# EAGLE library part MAX5864ETM+ (library muccc)
MAX5864 22Msps Analog Front End
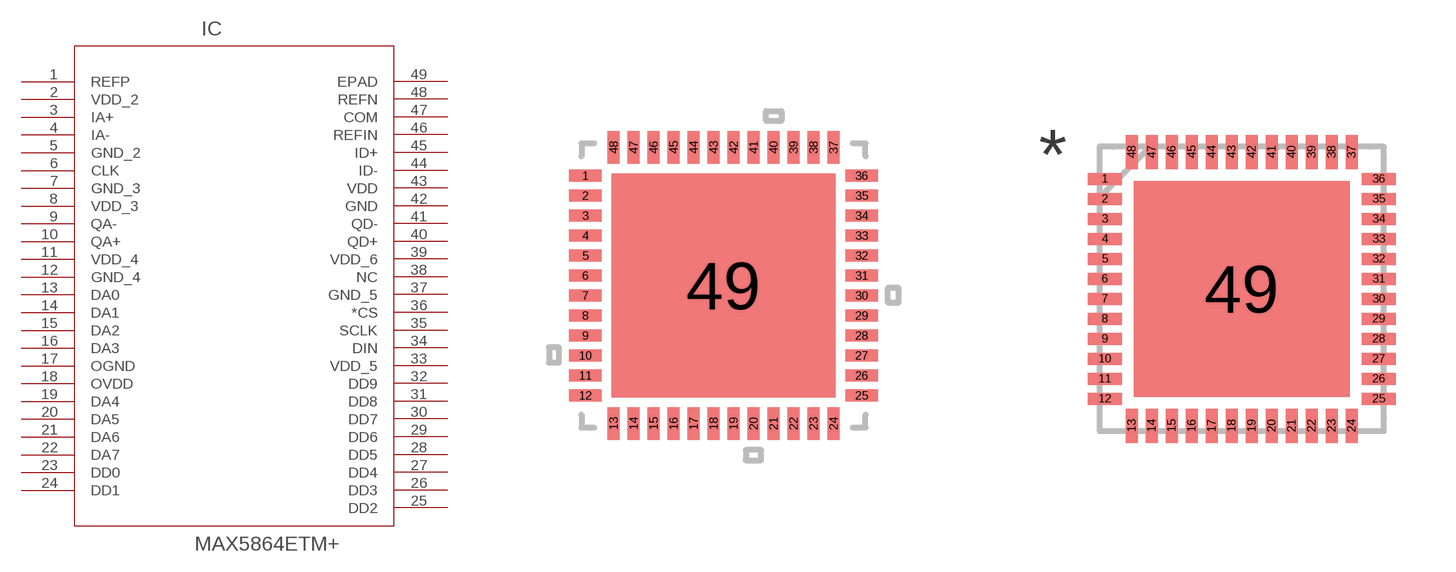
[diagram p0: symbol with the pads of 21-0144H_T4877-4; footprints 21-0144H_T4877-4, 21-0144H_T4877-4-PDF]

Designator prefix IC

## MAX5864ETM+ (MANUFACTURER_PART_NUMBER: max5864etm+; VENDOR: MAXIM)  [21-0144H_T4877-4]
1  REFP  pas
2  VDD_2  pwr
3  IA+  in
4  IA-  in
5  GND_2  pwr
6  CLK  in
7  GND_3  pwr
8  VDD_3  pwr
9  QA-  in
10  QA+  in
11  VDD_4  pwr
12  GND_4  pwr
13  DA0  out
14  DA1  out
15  DA2  out
16  DA3  out
17  OGND  pwr
18  OVDD  pwr
19  DA4  out
20  DA5  out
21  DA6  out
22  DA7  out
23  DD0  in
24  DD1  in
25  DD2  in
26  DD3  in
27  DD4  in
28  DD5  in
29  DD6  in
30  DD7  in
31  DD8  in
32  DD9  in
33  VDD_5  pwr
34  DIN  in
35  SCLK  in
36  *CS  in
37  GND_5  pwr
38  NC  nc
39  VDD_6  pwr
40  QD+  out
41  QD-  out
42  GND  pwr
43  VDD  pwr
44  ID-  out
45  ID+  out
46  REFIN  out
47  COM
48  REFN
49  EPAD  pas

## MAX5864ETM+PDF  [21-0144H_T4877-4-PDF]
Pads as for 21-0144H_T4877-4

## Footprint 21-0144H_T4877-4 (pad centres in mm)
smd 0.813 x 0.305: 1 -3.454,2.75; 2 -3.454,2.25; 3 -3.454,1.75; 4 -3.454,1.25; 5 -3.454,0.75; 6 -3.454,0.25; 7 -3.454,-0.25; 8 -3.454,-0.75; 9 -3.454,-1.25; 10 -3.454,-1.75; 11 -3.454,-2.25; 12 -3.454,-2.75; 25 3.454,-2.75; 26 3.454,-2.25; 27 3.454,-1.75; 28 3.454,-1.25; 29 3.454,-0.75; 30 3.454,-0.25; 31 3.454,0.25; 32 3.454,0.75; 33 3.454,1.25; 34 3.454,1.75; 35 3.454,2.25; 36 3.454,2.75
smd 0.305 x 0.813: 13 -2.75,-3.454; 14 -2.25,-3.454; 15 -1.75,-3.454; 16 -1.25,-3.454; 17 -0.75,-3.454; 18 -0.25,-3.454; 19 0.25,-3.454; 20 0.75,-3.454; 21 1.25,-3.454; 22 1.75,-3.454; 23 2.25,-3.454; 24 2.75,-3.454; 37 2.75,3.454; 38 2.25,3.454; 39 1.75,3.454; 40 1.25,3.454; 41 0.75,3.454; 42 0.25,3.454; 43 -0.25,3.454; 44 -0.75,3.454; 45 -1.25,3.454; 46 -1.75,3.454; 47 -2.25,3.454; 48 -2.75,3.454
smd 5.588 x 5.588: 49 0,0

## Footprint 21-0144H_T4877-4-PDF (pad centres in mm)
smd 0.85 x 0.3: 1 -3.425,2.75; 2 -3.425,2.25; 3 -3.425,1.75; 4 -3.425,1.25; 5 -3.425,0.75; 6 -3.425,0.25; 7 -3.425,-0.25; 8 -3.425,-0.75; 9 -3.425,-1.25; 10 -3.425,-1.75; 11 -3.425,-2.25; 12 -3.425,-2.75; 25 3.425,-2.75; 26 3.425,-2.25; 27 3.425,-1.75; 28 3.425,-1.25; 29 3.425,-0.75; 30 3.425,-0.25; 31 3.425,0.25; 32 3.425,0.75; 33 3.425,1.25; 34 3.425,1.75; 35 3.425,2.25; 36 3.425,2.75
smd 0.3 x 0.85: 13 -2.75,-3.425; 14 -2.25,-3.425; 15 -1.75,-3.425; 16 -1.25,-3.425; 17 -0.75,-3.425; 18 -0.25,-3.425; 19 0.25,-3.425; 20 0.75,-3.425; 21 1.25,-3.425; 22 1.75,-3.425; 23 2.25,-3.425; 24 2.75,-3.425; 37 2.75,3.425; 38 2.25,3.425; 39 1.75,3.425; 40 1.25,3.425; 41 0.75,3.425; 42 0.25,3.425; 43 -0.25,3.425; 44 -0.75,3.425; 45 -1.25,3.425; 46 -1.75,3.425; 47 -2.25,3.425; 48 -2.75,3.425
smd 5.4 x 5.4: 49 0,0